# Altium footprint library J 接插件.PcbLib: 458 footprints (part 7 of 29)
Each footprint in its own frame and in the unit in brackets; x right, y up, seen from the top. Pads: shape width x height; smd on the part's side, far side on the other; paste and mask are expansions set on the pad; w line width, h text height; cw(c..) or ccw(c..) is an arc to the next point about the centre after c.
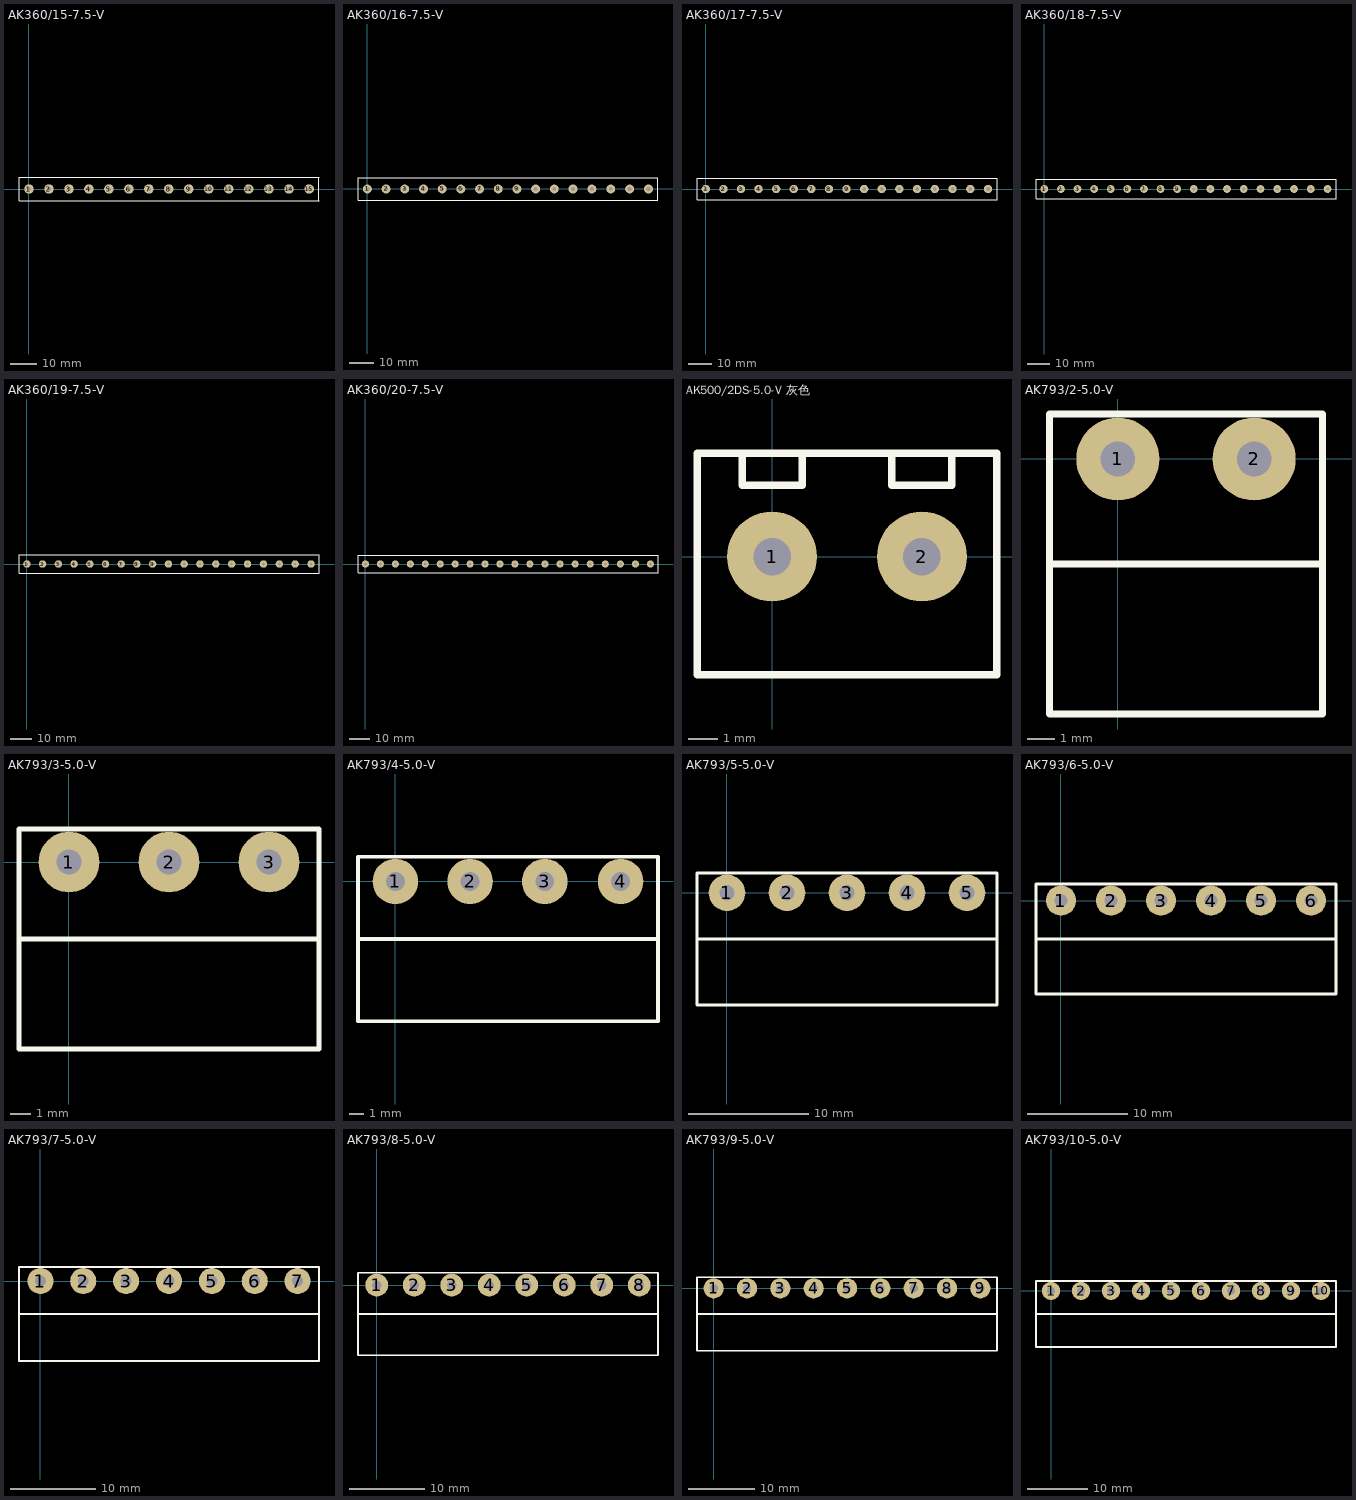
[diagram p6: the footprints below, top view; thin cyan lines are the x and y axes]

## AK360/15-7.5-V [mil] "美卡诺 AKZ360 接触件 间距：7.5   15Pin"
height 531.5
pads (15):
  round 140 hole 60: 1(0,0) 2(295.28,0) 3(590.28,0) 4(885.28,0) 5(1180.28,0) 6(1475.28,0) 7(1770.28,0) 8(2065.28,0) 9(2360.28,0) 10(2655.28,0) 11(2950.28,0) 12(3245.28,0) 13(3543.03,0) 14(3840.79,0) 15(4138.54,0)
Top Overlay:
  lines w10: -147.64,-177.17 4283.39,-177.17 4283.39,177.17 -147.64,177.17 -147.64,-177.17

## AK360/16-7.5-V [mil] "美卡诺 AKZ360 接触件 间距：7.5   16Pin"
height 531.5
pads (16):
  round 140 hole 60: 1(0,0) 2(295.28,0) 3(590.28,0) 4(885.28,0) 5(1180.28,0) 6(1475.28,0) 7(1770.28,0) 8(2065.28,0) 9(2360.28,0) 10(2655.28,0) 11(2950.28,0) 12(3245.28,0) 13(3543.03,0) 14(3840.79,0) 15(4138.54,0) 16(4436.3,0)
Top Overlay:
  lines w10: -147.64,-177.17 4586.02,-177.17 4586.02,177.17 -147.64,177.17 -147.64,-177.17

## AK360/17-7.5-V [mil] "美卡诺 AKZ360 接触件 间距：7.5   17Pin"
height 531.5
pads (17):
  round 140 hole 60: 1(0,0) 2(295.28,0) 3(590.28,0) 4(885.28,0) 5(1180.28,0) 6(1475.28,0) 7(1770.28,0) 8(2065.28,0) 9(2360.28,0) 10(2655.28,0) 11(2950.28,0) 12(3245.28,0) 13(3543.03,0) 14(3840.79,0) 15(4138.54,0) 16(4436.3,0) 17(4734.06,0)
Top Overlay:
  lines w10: -147.64,-177.17 -147.64,177.17 4883.78,177.17 4883.78,-177.17 -147.64,-177.17

## AK360/18-7.5-V [mil] "美卡诺 AKZ360 接触件 间距：7.5   18Pin"
height 531.5
pads (18):
  round 140 hole 60: 1(0,0) 2(295.28,0) 3(590.28,0) 4(885.28,0) 5(1180.28,0) 6(1475.28,0) 7(1770.28,0) 8(2065.28,0) 9(2360.28,0) 10(2655.28,0) 11(2950.28,0) 12(3245.28,0) 13(3543.03,0) 14(3840.79,0) 15(4138.54,0) 16(4436.3,0) 17(4734.06,0) 18(5031.81,0)
Top Overlay:
  lines w10: -147.64,-177.17 -147.64,177.17 5181.54,177.17 5181.54,-177.17 -147.64,-177.17

## AK360/19-7.5-V [mil] "美卡诺 AKZ360 接触件 间距：7.5   19Pin"
height 531.5
pads (19):
  round 140 hole 60: 1(0,0) 2(295.28,0) 3(590.28,0) 4(885.28,0) 5(1180.28,0) 6(1475.28,0) 7(1770.28,0) 8(2065.28,0) 9(2360.28,0) 10(2655.28,0) 11(2950.28,0) 12(3245.28,0) 13(3543.03,0) 14(3840.79,0) 15(4138.54,0) 16(4436.3,0) 17(4734.06,0) 18(5031.81,0) 19(5329.57,0)
Top Overlay:
  lines w10: -147.64,-177.17 -147.64,177.17 5479.29,177.17 5479.29,-177.17 -147.64,-177.17

## AK360/20-7.5-V [mil] "美卡诺 AKZ360 接触件 间距：7.5   20Pin"
height 531.5
pads (20):
  round 140 hole 60: 1(0,0) 2(295.28,0) 3(590.28,0) 4(885.28,0) 5(1180.28,0) 6(1475.28,0) 7(1770.28,0) 8(2065.28,0) 9(2360.28,0) 10(2655.28,0) 11(2950.28,0) 12(3245.28,0) 13(3543.03,0) 14(3840.79,0) 15(4138.54,0) 16(4436.3,0) 17(4734.06,0) 18(5031.81,0) 19(5329.57,0) 20(5624.84,0)
Top Overlay:
  lines w10: -147.64,-177.17 -147.64,177.17 5774.57,177.17 5774.57,-177.17 -147.64,-177.17

## AK500/2DS-5.0-V 灰色 [mil] "美卡诺 AKZ350 接触件 间距：5.08   2Pin"
height 393.7
pads (2):
  round 120 hole 50: 1(0,0) 2(200,0)
Top Overlay:
  lines w10: -40,135 -40,95 40,95 40,135 ; 160,135 160,95 240,95 240,135 ; -100,-157.48 -100,137.8 300,137.8 300,-157.48 -100,-157.48

## AK793/2-5.0-V [mil] "美卡诺 AKZ793 接触件 间距：5.0   2Pin"
height 1236.22
pads (2):
  round 120 hole 50: 1(0,0) 2(196.85,0)
Top Overlay:
  lines w10: -98.43,-151.57 295.28,-151.57 ; -98.43,-368.11 295.28,-368.11 295.28,64.96 -98.43,64.96 -98.43,-368.11

## AK793/3-5.0-V [mil] "美卡诺 AKZ793 接触件 间距：5.0   3Pin"
height 1236.22
pads (3):
  round 120 hole 50: 1(0,0) 2(196.85,0) 3(393.7,0)
Top Overlay:
  lines w10: -98.43,-151.57 492.13,-151.57 ; 490,64.96 -98.43,64.96 -98.43,-368.11 492.13,-368.11 492.13,64.96

## AK793/4-5.0-V [mil] "美卡诺 AKZ793 接触件 间距：5.0   4Pin"
height 1236.22
pads (4):
  round 120 hole 50: 1(0,0) 2(196.85,0) 3(393.7,0) 4(593.7,0)
Top Overlay:
  lines w10: -98.43,-151.57 692.13,-151.57 ; -98.43,-368.11 692.13,-368.11 692.13,64.96 -98.43,64.96 -98.43,-368.11

## AK793/5-5.0-V [mil] "美卡诺 AKZ793 接触件 间距：5.0   5Pin"
height 1236.22
pads (5):
  round 120 hole 50: 1(0,0) 2(196.85,0) 3(393.7,0) 4(590.55,0) 5(787.4,0)
Top Overlay:
  lines w10: -98.43,-151.57 885.83,-151.57 ; -98.43,-368.11 -98.43,64.96 885.83,64.96 885.83,-368.11 -98.43,-368.11

## AK793/6-5.0-V [mil] "美卡诺 AKZ793 接触件 间距：5.0   6Pin"
height 1236.22
pads (6):
  round 120 hole 50: 1(0,0) 2(196.85,0) 3(393.7,0) 4(590.55,0) 5(787.4,0) 6(984.25,0)
Top Overlay:
  lines w10: -98.43,-151.57 1082.68,-151.57 ; -98.43,-368.11 1082.68,-368.11 1082.68,64.96 -98.43,64.96 -98.43,-368.11

## AK793/7-5.0-V [mil] "美卡诺 AKZ793 接触件 间距：5.0   7Pin"
height 1236.22
pads (7):
  round 120 hole 50: 1(0,0) 2(196.85,0) 3(393.7,0) 4(590.55,0) 5(787.4,0) 6(984.25,0) 7(1181.1,0)
Top Overlay:
  lines w10: -98.43,-151.57 1279.53,-151.57 ; -98.43,-368.11 1279.53,-368.11 1279.53,64.96 -98.43,64.96 -98.43,-368.11

## AK793/8-5.0-V [mil] "美卡诺 AKZ793 接触件 间距：5.0   8Pin"
height 1236.22
pads (8):
  round 120 hole 50: 1(0,0) 2(196.85,0) 3(393.7,0) 4(590.55,0) 5(787.4,0) 6(984.25,0) 7(1181.1,0) 8(1377.95,0)
Top Overlay:
  lines w10: -98.43,-151.57 1476.38,-151.57 ; -98.43,-368.11 1476.38,-368.11 1476.38,64.96 -98.43,64.96 -98.43,-368.11

## AK793/9-5.0-V [mil] "美卡诺 AKZ793 接触件 间距：5.0   9Pin"
height 1236.22
pads (9):
  round 120 hole 50: 1(0,0) 2(196.85,0) 3(393.7,0) 4(590.55,0) 5(787.4,0) 6(984.25,0) 7(1181.1,0) 8(1377.95,0) 9(1574.8,0)
Top Overlay:
  lines w10: -98.43,-151.57 1673.23,-151.57 ; -98.43,-368.11 -98.43,64.96 1673.23,64.96 1673.23,-368.11 -98.43,-368.11

## AK793/10-5.0-V [mil] "美卡诺 AKZ793 接触件 间距：5.0   10Pin"
height 1236.22
pads (10):
  round 120 hole 50: 1(0,0) 2(196.85,0) 3(393.7,0) 4(590.55,0) 5(787.4,0) 6(984.25,0) 7(1181.1,0) 8(1377.95,0) 9(1574.8,0) 10(1771.65,0)
Top Overlay:
  lines w10: -98.43,-151.57 1870.08,-151.57 ; -98.43,-368.11 1870.08,-368.11 1870.08,64.96 -98.43,64.96 -98.43,-368.11